# EAGLE library part HEADER-12P-2R (library deiring-components)
Header 12 Pin 2 Row
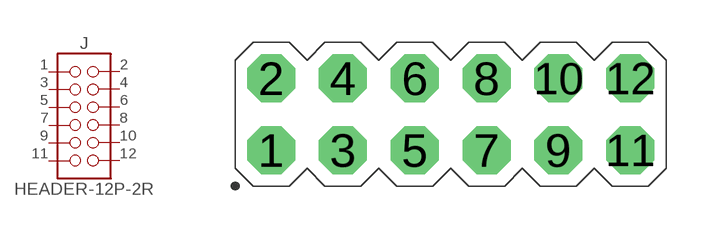
[diagram p9: symbol with the pads of PZ254V-12-12P; footprint PZ254V-12-12P]

Designator prefix J

## HEADER-12P-2R-2.54 (LCSC: C492423; MF: XFCN; MPN: PZ254V-12-12P; VALUE: 12P)  [PZ254V-12-12P]
1  01  pas
2  02  pas
3  03  pas
4  04  pas
5  05  pas
6  06  pas
7  07  pas
8  08  pas
9  09  pas
10  10  pas
11  11  pas
12  12  pas

## Footprint PZ254V-12-12P (pad centres in mm)
drill 1 pad 1.7 octagon: 1 -6.35,-1.27; 2 -6.35,1.27; 3 -3.81,-1.27; 4 -3.81,1.27; 5 -1.27,-1.27; 6 -1.27,1.27; 7 1.27,-1.27; 8 1.27,1.27; 9 3.81,-1.27; 10 3.81,1.27; 11 6.35,-1.27; 12 6.35,1.27